# Altium footprint library MEM.PcbLib: 1 footprints
Each footprint in its own frame and in the unit in brackets; x right, y up, seen from the top. Pads: shape width x height; smd on the part's side, far side on the other; paste and mask are expansions set on the pad; w line width, h text height; cw(c..) or ccw(c..) is an arc to the next point about the centre after c.
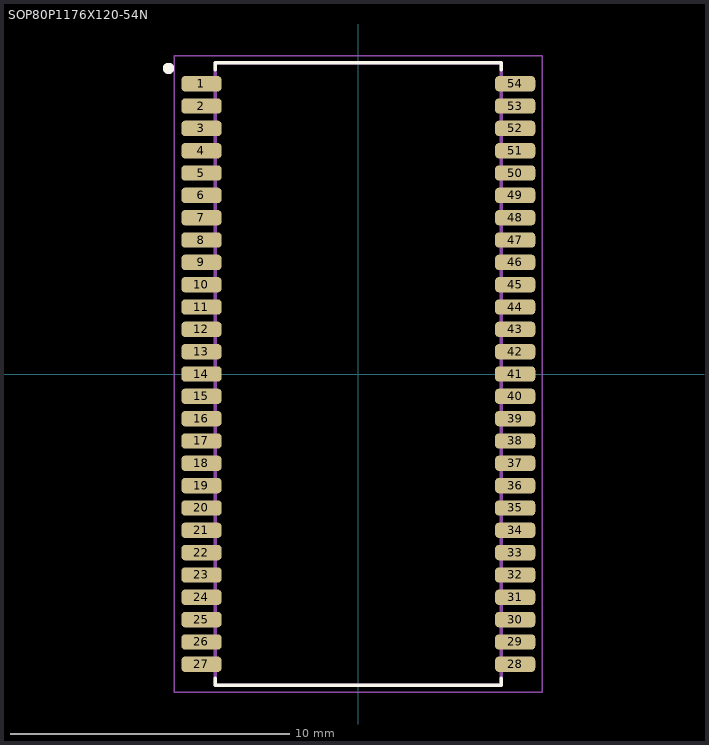
[diagram p0: the footprint, top view; thin cyan lines are the x and y axes]

## SOP80P1176X120-54N [mm]
pads (54):
  rrect50% 1.44x0.55 smd: 1(-5.62,10.4) 2(-5.62,9.6) 3(-5.62,8.8) 4(-5.62,8) 5(-5.62,7.2) 6(-5.62,6.4) 7(-5.62,5.6) 8(-5.62,4.8) 9(-5.62,4) 10(-5.62,3.2) 11(-5.62,2.4) 12(-5.62,1.6) 13(-5.62,0.8) 14(-5.62,0) 15(-5.62,-0.8) 16(-5.62,-1.6) 17(-5.62,-2.4) 18(-5.62,-3.2) 19(-5.62,-4) 20(-5.62,-4.8) 21(-5.62,-5.6) 22(-5.62,-6.4) 23(-5.62,-7.2) 24(-5.62,-8) 25(-5.62,-8.8) 26(-5.62,-9.6) 27(-5.62,-10.4) 28(5.62,-10.4) 29(5.62,-9.6) 30(5.62,-8.8) 31(5.62,-8) 32(5.62,-7.2) 33(5.62,-6.4) 34(5.62,-5.6) 35(5.62,-4.8) 36(5.62,-4) 37(5.62,-3.2) 38(5.62,-2.4) 39(5.62,-1.6) 40(5.62,-0.8) 41(5.62,0) 42(5.62,0.8) 43(5.62,1.6) 44(5.62,2.4) 45(5.62,3.2) 46(5.62,4) 47(5.62,4.8) 48(5.62,5.6) 49(5.62,6.4) 50(5.62,7.2) 51(5.62,8) 52(5.62,8.8) 53(5.62,9.6) 54(5.62,10.4)
Top Overlay:
  circle w0.2: c-6.8,10.95 r0.1
  lines w0.127: -5.12,-10.9 -5.12,-11.15 5.12,-11.15 5.12,-10.9 ; -5.12,10.9 -5.12,11.15 5.12,11.15 5.12,10.9
Mechanical 13:
  circle w0.2: c-6.8,10.95 r0.1
  lines w0.127: -5.12,-11.15 5.12,-11.15 5.12,11.15 -5.12,11.15 -5.12,-11.15
Mechanical 15:
  lines w0.05: -6.59,-11.4 6.59,-11.4 6.59,11.4 -6.59,11.4 -6.59,-11.4